# EAGLE library part DB-9MP (library gost_con_subd)
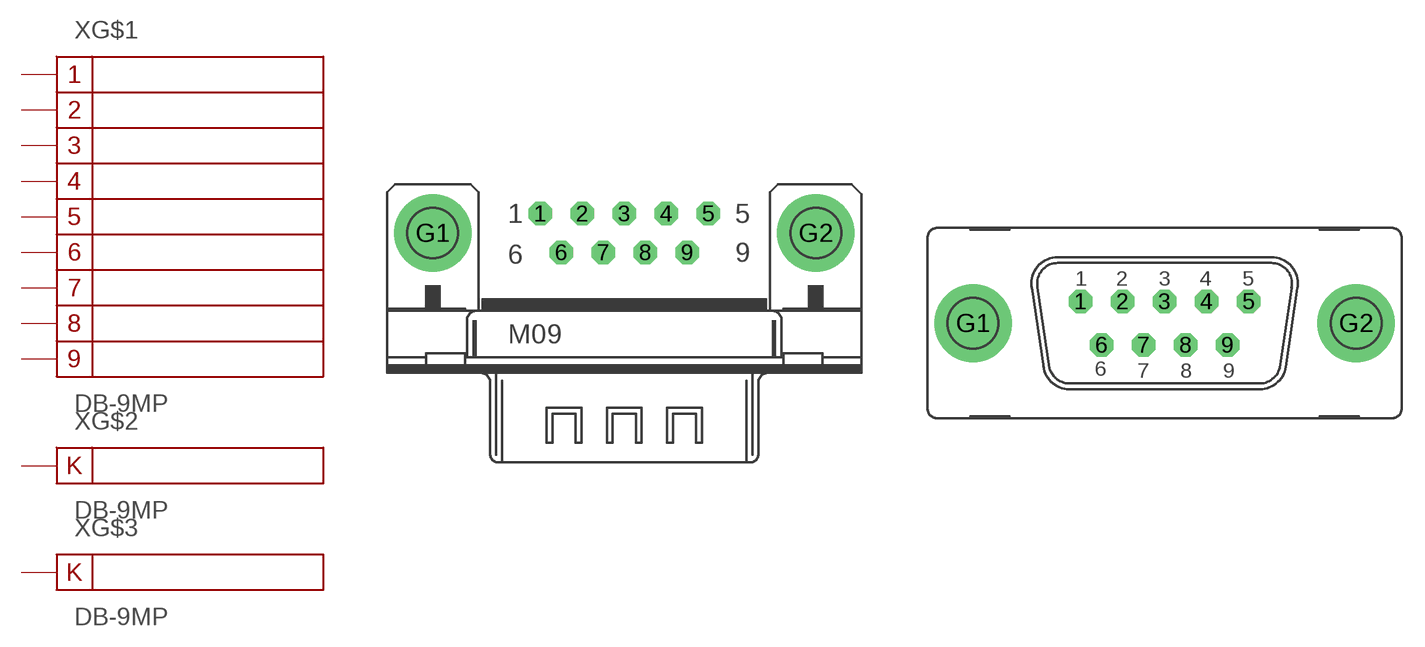
[diagram p9: symbol with the pads of M09HP; footprints M09HP, M09VP]

Designator prefix X; gates G$1=9PIN G$2=1PIN G$3=1PIN

## DB-9MPH  [M09HP]
1  G$1:1
2  G$1:2
3  G$1:3
4  G$1:4
5  G$1:5
6  G$1:6
7  G$1:7
8  G$1:8
9  G$1:9
G1  G$2:1
G2  G$3:1

## DB-9MPV  [M09VP]
Pads as for M09HP

## Footprint M09HP (pad centres in mm)
SUB-D
drill 1.016 octagon: 1 -5.486,1.27; 2 -2.743,1.27; 3 0,1.27; 4 2.743,1.27; 5 5.486,1.27; 6 -4.115,-1.27; 7 -1.372,-1.27; 8 1.372,-1.27; 9 4.115,-1.27
drill 3.302 pad 5.08: G1 -12.522,0; G2 12.522,0

## Footprint M09VP (pad centres in mm)
SUB-D
drill 1.016 octagon: 1 -5.486,1.422; 2 -2.743,1.422; 3 0,1.422; 4 2.743,1.422; 5 5.486,1.422; 6 -4.115,-1.422; 7 -1.372,-1.422; 8 1.372,-1.422; 9 4.115,-1.422
drill 3.302 pad 5.08: G1 -12.522,0; G2 12.522,0